# EAGLE library part SHT35-DIS-B (library graftel-internal-ic)
High-End Digital Humidity Sensor, DFN-Type, typ. ±1.5%RH
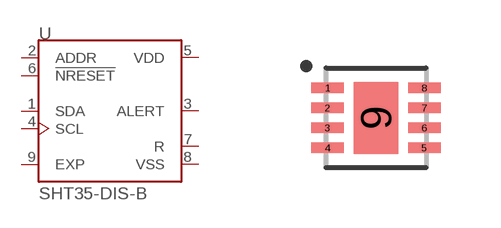
[diagram p47: symbol with the pads of SON50P250X250X100-9N; footprint SON50P250X250X100-9N]

Designator prefix U

## SHT35-DIS-B (AVAILABILITY: Good; DESCRIPTION: High-End Digital Humidity Sensor, DFN-Type, typ. ±1.5%RH; MF: Sensirion; MP: SHT35-DIS-B; PACKAGE: DFN-8 Sensirion; PRICE: 7.84 USD)  [SON50P250X250X100-9N]
1  SDA
2  ADDR  in
3  ALERT  out
4  SCL
5  VDD  pwr
6  !NRESET  in
7  R  pwr
8  VSS  pwr
9  EXP  pas

## Footprint SON50P250X250X100-9N (pad centres in mm)
smd 0.81 x 0.27: 1 -1.21,0.75; 2 -1.21,0.25; 3 -1.21,-0.25; 4 -1.21,-0.75; 5 1.21,-0.75; 6 1.21,-0.25; 7 1.21,0.25; 8 1.21,0.75
smd 1.1 x 1.8: 9 0,0